# Altium footprint library WSON-6.PcbLib: 1 footprints
Each footprint in its own frame and in the unit in brackets; x right, y up, seen from the top. Pads: shape width x height; smd on the part's side, far side on the other; paste and mask are expansions set on the pad; w line width, h text height; cw(c..) or ccw(c..) is an arc to the next point about the centre after c.
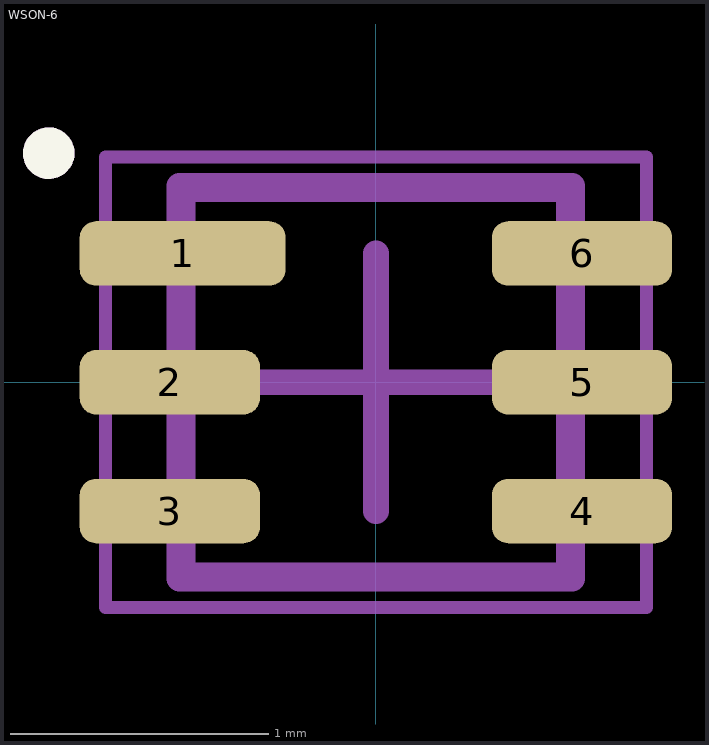
[diagram p0: the footprint, top view; thin cyan lines are the x and y axes]

## WSON-6 [mm]
pads (6):
  rrect50% 0.8x0.25 smd mask+0.05: 1(-0.75,0.5)
  rrect50% 0.7x0.25 smd mask+0.05: 2(-0.8,0) 3(-0.8,-0.5) 4(0.8,-0.5) 5(0.8,0) 6(0.8,0.5)
Top Overlay:
  circle w0.1: c-1.27,0.889 r0.05
Mechanical 1:
  circle w0.1: c-1.27,0.889 r0.05
  lines w0.1: -0.762,-0.762 0.762,-0.762 0.762,0.762 -0.762,0.762 -0.762,-0.762
  text ".Designator" at 0.04,-0.127 h0.6
Mechanical 13:
  lines w0.1: -0.75,-0.75 0.75,-0.75 0.75,0.75 -0.75,0.75 -0.75,-0.75
Mechanical 15:
  lines w0.05: -1.05,-0.875 1.05,-0.875 1.05,0.875 -1.05,0.875 -1.05,-0.875
  lines w0.1: -0.5,0 0.5,0 ; 0,-0.5 0,0.5
3D body: height 0.8, standoff 0, extent -0.75,-0.75 0.75,0.75